# Altium integrated library Agilent LED Display Overflow.IntLib: 60 symbols (part 1 of 2)
Pins are listed as number, name and electrical type; pins without a type are passive.

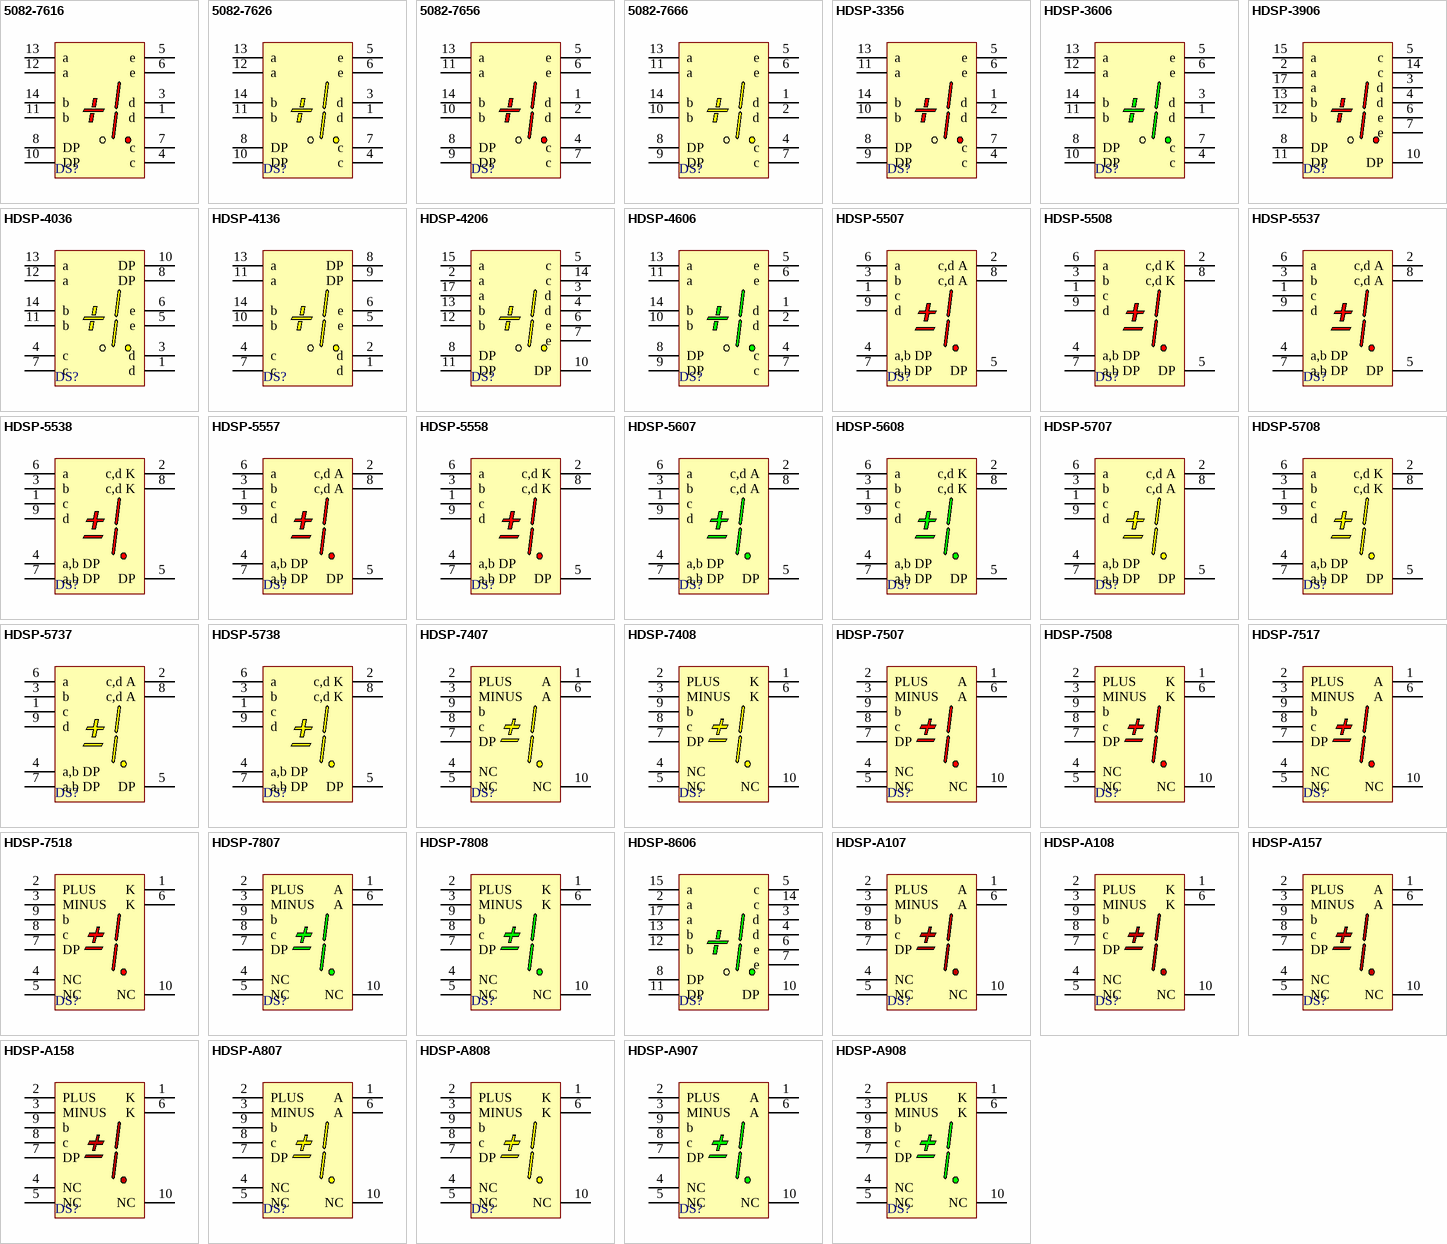
[diagram p0: symbols 5082-7616 to HDSP-A908]

## 5082-7616
designator DS?
7.62 mm HER 7-Segment Display: Universal ±1 Overflow, RH DP; LuminousIntensity: 340 ucd (Minimum).; LED_Colour: High Efficiency Red (HER); Note: No pins are present in positions 2 and 9.; Published: 26-May-2004; LatestRevisionDate: 11-Oct-2004; LatestRevisionNote: Display outline superimposed on PCB Footprint.; DatasheetDocument: 27-Aug-2001; PackageDocument: 10-Mar-2001; PackageReference: A-12; Publisher: Altium Limited; ComponentLink1Description: Manufacturer Link; ComponentLink1URL: http://www.agilent.com/; ComponentLink2Description: Datasheet; ComponentLink2URL: http://cp.literature.agilent.com/litweb/pdf/5988-3325EN.pdf
footprint A-12 (LED, Universal ±1 Overflow, 7.62 mm, RHD; 14 Leads (2 Absent); Row Space 7.62 mm; Pitch 2.54 mm)
simulation model 5082_7616 (SUBCKT)
pins: 1 d "Anode", 3 d "Cathode", 4 c "Cathode", 5 e "Cathode", 6 e "Anode", 7 c "Anode", 8 DP "Anode", 10 DP "Cathode", 11 b "Cathode", 12 a "Cathode", 13 a "Anode", 14 b "Anode"

## 5082-7626
designator DS?
7.62 mm Yellow 7-Segment Display: Universal ±1 Overflow, RH DP; LuminousIntensity: 205 ucd (Minimum).; Note: No pins are present in positions 2 and 9.; Published: 26-May-2004; LatestRevisionDate: 11-Oct-2004; LatestRevisionNote: Display outline superimposed on PCB Footprint.; DatasheetDocument: 27-Aug-2001; PackageDocument: 10-Mar-2001; PackageReference: A-12; Publisher: Altium Limited; LED_Colour: Yellow; ComponentLink1Description: Manufacturer Link; ComponentLink1URL: http://www.agilent.com/; ComponentLink2Description: Datasheet; ComponentLink2URL: http://cp.literature.agilent.com/litweb/pdf/5988-3325EN.pdf
footprint A-12 (LED, Universal ±1 Overflow, 7.62 mm, RHD; 14 Leads (2 Absent); Row Space 7.62 mm; Pitch 2.54 mm)
simulation model 5082_7626 (SUBCKT)
pins: 1 d "Anode", 3 d "Cathode", 4 c "Cathode", 5 e "Cathode", 6 e "Anode", 7 c "Anode", 8 DP "Anode", 10 DP "Cathode", 11 b "Cathode", 12 a "Cathode", 13 a "Anode", 14 b "Anode"

## 5082-7656
designator DS?
10.92 mm HER 7-Segment Display: Universal ±1 Overflow, RH DP; LuminousIntensity: 340 ucd (Minimum).; LED_Colour: High Efficiency Red (HER); Note: No pins are present in positions 3 and 12.; Published: 26-May-2004; LatestRevisionDate: 11-Oct-2004; LatestRevisionNote: Display outline superimposed on PCB Footprint.; DatasheetDocument: 27-Aug-2001; PackageDocument: 11-Mar-2003; PackageReference: E-12; Publisher: Altium Limited; ComponentLink1Description: Manufacturer Link; ComponentLink1URL: http://www.agilent.com/; ComponentLink2Description: Datasheet; ComponentLink2URL: http://cp.literature.agilent.com/litweb/pdf/5988-3325EN.pdf
footprint E-12 (LED, Universal ±1 Overflow, 10.92 mm, RHD; 14 Leads (2 Absent); Row Space 7.62 mm; Pitch 2.54 mm)
simulation model 5082_7656 (SUBCKT)
pins: 1 d "Cathode", 2 d "Anode", 4 c "Cathode", 5 e "Cathode", 6 e "Anode", 7 c "Anode", 8 DP "Anode", 9 DP "Cathode", 10 b "Cathode", 11 a "Cathode", 13 a "Anode", 14 b "Anode"

## 5082-7666
designator DS?
10.92 mm Yellow 7-Segment Display: Universal ±1 Overflow, RH DP; LuminousIntensity: 290 ucd (Minimum).; Note: No pins are present in positions 3 and 12.; Published: 26-May-2004; LatestRevisionDate: 11-Oct-2004; LatestRevisionNote: Display outline superimposed on PCB Footprint.; DatasheetDocument: 27-Aug-2001; PackageDocument: 11-Mar-2003; PackageReference: E-12; Publisher: Altium Limited; LED_Colour: Yellow; ComponentLink1Description: Manufacturer Link; ComponentLink1URL: http://www.agilent.com/; ComponentLink2Description: Datasheet; ComponentLink2URL: http://cp.literature.agilent.com/litweb/pdf/5988-3325EN.pdf
footprint E-12 (LED, Universal ±1 Overflow, 10.92 mm, RHD; 14 Leads (2 Absent); Row Space 7.62 mm; Pitch 2.54 mm)
simulation model 5082_7666 (SUBCKT)
pins: 1 d "Cathode", 2 d "Anode", 4 c "Cathode", 5 e "Cathode", 6 e "Anode", 7 c "Anode", 8 DP "Anode", 9 DP "Cathode", 10 b "Cathode", 11 a "Cathode", 13 a "Anode", 14 b "Anode"

## HDSP-3356
designator DS?
10.92 mm Low Current HER 7-Segment Display: Universal ±1 Overflow; LuminousIntensity: 200 ucd (Minimum).; LED_Colour: High Efficiency Red (HER); Note: No pins are present in positions 3 and 12.; Published: 26-May-2004; LatestRevisionDate: 11-Oct-2004; LatestRevisionNote: Display outline superimposed on PCB Footprint.; DatasheetDocument: 11-Mar-2003; PackageDocument: 11-Mar-2003; PackageReference: E-12; Publisher: Altium Limited; ComponentLink1Description: Manufacturer Link; ComponentLink1URL: http://www.agilent.com/; ComponentLink2Description: Datasheet; ComponentLink2URL: http://cp.literature.agilent.com/litweb/pdf/5989-2824EN.pdf
footprint E-12 (LED, Universal ±1 Overflow, 10.92 mm, RHD; 14 Leads (2 Absent); Row Space 7.62 mm; Pitch 2.54 mm)
simulation model HDSP_3356 (SUBCKT)
pins: 1 d "Cathode", 2 d "Anode", 4 c "Cathode", 5 e "Cathode", 6 e "Anode", 7 c "Anode", 8 DP "Anode", 9 DP "Cathode", 10 b "Cathode", 11 a "Cathode", 13 a "Anode", 14 b "Anode"

## HDSP-3606
designator DS?
7.62 mm Green 7-Segment Display: Universal ±1 Overflow, RH DP; LuminousIntensity: 860 ucd (Minimum).; Note: No pins are present in positions 2 and 9.; Published: 26-May-2004; LatestRevisionDate: 11-Oct-2004; LatestRevisionNote: Display outline superimposed on PCB Footprint.; DatasheetDocument: 27-Aug-2001; PackageDocument: 10-Mar-2001; PackageReference: A-12; Publisher: Altium Limited; LED_Colour: Green; ComponentLink1Description: Manufacturer Link; ComponentLink1URL: http://www.agilent.com/; ComponentLink2Description: Datasheet; ComponentLink2URL: http://cp.literature.agilent.com/litweb/pdf/5988-3325EN.pdf
footprint A-12 (LED, Universal ±1 Overflow, 7.62 mm, RHD; 14 Leads (2 Absent); Row Space 7.62 mm; Pitch 2.54 mm)
simulation model HDSP_3606 (SUBCKT)
pins: 1 d "Anode", 3 d "Cathode", 4 c "Cathode", 5 e "Cathode", 6 e "Anode", 7 c "Anode", 8 DP "Anode", 10 DP "Cathode", 11 b "Cathode", 12 a "Cathode", 13 a "Anode", 14 b "Anode"

## HDSP-3906
designator DS?
20.32 mm Gray Package HER 7-Segment Display: Universal ±1 Overflow; LuminousIntensity: 3350 ucd (Minimum).; LED_Colour: High Efficiency Red (HER); Note: No pins are present in positions 1, 9, 16 and 18.; Published: 26-May-2004; LatestRevisionDate: 11-Oct-2004; LatestRevisionNote: Display outline superimposed on PCB Footprint.; DatasheetDocument: 26-Jul-2001; PackageDocument: 26-Jul-2001; PackageReference: N-14; Publisher: Altium Limited; ComponentLink1Description: Manufacturer Link; ComponentLink1URL: http://www.agilent.com/; ComponentLink2Description: Datasheet; ComponentLink2URL: http://cp.literature.agilent.com/litweb/pdf/5988-1737EN.pdf
footprint N-14 (LED, 7-Segment Display, 20.32 mm, RHD; 18 Leads (4 Absent); Row Space 15.24 mm; Pitch 2.54 mm)
simulation model HDSP_3906 (SUBCKT)
pins: 2 a "Cathode", 3 d "Anode", 4 d "Cathode", 5 c "Cathode", 6 e "Cathode", 7 e "Anode", 8 DP "Cathode", 10 DP "Anode", 11 DP "Cathode", 12 b "Cathode", 13 b "Anode", 14 c "Anode", 15 a "Anode", 17 a "Cathode"

## HDSP-4036
designator DS?
7.62 mm Gray Package Yellow 7-Segment Display for High Light Ambient Conditions: Universal ±1 Overflow, RH DP; LuminousIntensity: 2200 ucd (Typical).; Note: No pins are present in positions 2 and 9.; Published: 26-May-2004; LatestRevisionDate: 11-Oct-2004; LatestRevisionNote: Display outline superimposed on PCB Footprint.; DatasheetDocument: 10-Mar-2001; PackageDocument: 10-Mar-2001; PackageReference: A-12; Publisher: Altium Limited; LED_Colour: Yellow; ComponentLink1Description: Manufacturer Link; ComponentLink1URL: http://www.agilent.com/; ComponentLink2Description: Datasheet; ComponentLink2URL: http://cp.literature.agilent.com/litweb/pdf/5988-1734EN.pdf
footprint A-12 (LED, Universal ±1 Overflow, 7.62 mm, RHD; 14 Leads (2 Absent); Row Space 7.62 mm; Pitch 2.54 mm)
simulation model HDSP_4036 (SUBCKT)
pins: 1 d "Anode", 3 d "Cathode", 4 c "Cathode", 5 e "Cathode", 6 e "Anode", 7 c "Anode", 8 DP "Anode", 10 DP "Cathode", 11 b "Cathode", 12 a "Cathode", 13 a "Anode", 14 b "Anode"

## HDSP-4136
designator DS?
10.9 mm Gray Package Yellow 7-Segment Display for High Light Ambient Conditions: Universal ±1 Overflow, RH DP; LuminousIntensity: 2500 ucd (Typical).; Note: No pins are present in positions 3 and 12.; Published: 26-May-2004; LatestRevisionDate: 11-Oct-2004; LatestRevisionNote: Display outline superimposed on PCB Footprint.; DatasheetDocument: 10-Mar-2001; PackageDocument: 11-Mar-2003; PackageReference: E-12; Publisher: Altium Limited; LED_Colour: Yellow; ComponentLink1Description: Manufacturer Link; ComponentLink1URL: http://www.agilent.com/; ComponentLink2Description: Datasheet; ComponentLink2URL: http://cp.literature.agilent.com/litweb/pdf/5988-1734EN.pdf
footprint E-12 (LED, Universal ±1 Overflow, 10.92 mm, RHD; 14 Leads (2 Absent); Row Space 7.62 mm; Pitch 2.54 mm)
simulation model HDSP_4136 (SUBCKT)
pins: 1 d "Cathode", 2 d "Anode", 4 c "Cathode", 5 e "Cathode", 6 e "Anode", 7 c "Anode", 8 DP "Anode", 9 DP "Cathode", 10 b "Cathode", 11 a "Cathode", 13 a "Anode", 14 b "Anode"

## HDSP-4206
designator DS?
20.32 mm Gray Package Yellow 7-Segment Display: Universal ±1 Overflow; LuminousIntensity: 2200 ucd (Minimum).; Note: No pins are present in positions 1, 9, 16 and 18.; Published: 26-May-2004; LatestRevisionDate: 11-Oct-2004; LatestRevisionNote: Display outline superimposed on PCB Footprint.; DatasheetDocument: 26-Jul-2001; PackageDocument: 26-Jul-2001; PackageReference: N-14; Publisher: Altium Limited; LED_Colour: Yellow; ComponentLink1Description: Manufacturer Link; ComponentLink1URL: http://www.agilent.com/; ComponentLink2Description: Datasheet; ComponentLink2URL: http://cp.literature.agilent.com/litweb/pdf/5988-1737EN.pdf
footprint N-14 (LED, 7-Segment Display, 20.32 mm, RHD; 18 Leads (4 Absent); Row Space 15.24 mm; Pitch 2.54 mm)
simulation model HDSP_4206 (SUBCKT)
pins: 2 a "Cathode", 3 d "Anode", 4 d "Cathode", 5 c "Cathode", 6 e "Cathode", 7 e "Anode", 8 DP "Cathode", 10 DP "Anode", 11 DP "Cathode", 12 b "Cathode", 13 b "Anode", 14 c "Anode", 15 a "Anode", 17 a "Cathode"

## HDSP-4606
designator DS?
10.92 mm Green 7-Segment Display: Universal ±1 Overflow, RH DP; LuminousIntensity: 1030 ucd (Minimum).; Note: No pins are present in positions 3 and 12.; Published: 26-May-2004; LatestRevisionDate: 11-Oct-2004; LatestRevisionNote: Display outline superimposed on PCB Footprint.; DatasheetDocument: 27-Aug-2001; PackageDocument: 11-Mar-2003; PackageReference: E-12; Publisher: Altium Limited; LED_Colour: Green; ComponentLink1Description: Manufacturer Link; ComponentLink1URL: http://www.agilent.com/; ComponentLink2Description: Datasheet; ComponentLink2URL: http://cp.literature.agilent.com/litweb/pdf/5988-3325EN.pdf
footprint E-12 (LED, Universal ±1 Overflow, 10.92 mm, RHD; 14 Leads (2 Absent); Row Space 7.62 mm; Pitch 2.54 mm)
simulation model HDSP_4606 (SUBCKT)
pins: 1 d "Cathode", 2 d "Anode", 4 c "Cathode", 5 e "Cathode", 6 e "Anode", 7 c "Anode", 8 DP "Anode", 9 DP "Cathode", 10 b "Cathode", 11 a "Cathode", 13 a "Anode", 14 b "Anode"

## HDSP-5507
designator DS?
14.22 mm Gray Surface HER 7-Segment Display: CA, ±1 Overflow; LuminousIntensity: 900 ucd (Minimum).; LED_Colour: High Efficiency Red (HER); Note: No pin is present in position 10.; Published: 26-May-2004; LatestRevisionDate: 11-Oct-2004; LatestRevisionNote: Display outline superimposed on PCB Footprint.; DatasheetDocument: 17-Jan-2002; PackageDocument: 24-Sep-2002; PackageReference: H-9; Publisher: Altium Limited; ComponentLink1Description: Manufacturer Link; ComponentLink1URL: http://www.agilent.com/; ComponentLink2Description: Datasheet; ComponentLink2URL: http://cp.literature.agilent.com/litweb/pdf/5988-4273EN.pdf
footprint H-9 (LED, Universal ±1 Overflow, 14.22 mm, RHD; 10 Leads (1 Absent); Row Space 15.24 mm; Pitch 2.54 mm)
simulation model HDSP_5507 (SUBCKT)
pins: 1 c "Cathode", 2 c,d A "Anode", 3 b "Cathode", 4 a,b DP "Anode", 5 DP "Cathode", 6 a "Cathode", 7 a,b DP "Anode", 8 c,d A "Anode", 9 d "Cathode"

## HDSP-5508
designator DS?
14.22 mm Gray Surface HER 7-Segment Display: CC, ±1 Overflow; LuminousIntensity: 900 ucd (Minimum).; LED_Colour: High Efficiency Red (HER); Note: No pin is present in position 10.; Published: 26-May-2004; LatestRevisionDate: 11-Oct-2004; LatestRevisionNote: Display outline superimposed on PCB Footprint.; DatasheetDocument: 17-Jan-2002; PackageDocument: 24-Sep-2002; PackageReference: H-9; Publisher: Altium Limited; ComponentLink1Description: Manufacturer Link; ComponentLink1URL: http://www.agilent.com/; ComponentLink2Description: Datasheet; ComponentLink2URL: http://cp.literature.agilent.com/litweb/pdf/5988-4273EN.pdf
footprint H-9 (LED, Universal ±1 Overflow, 14.22 mm, RHD; 10 Leads (1 Absent); Row Space 15.24 mm; Pitch 2.54 mm)
simulation model HDSP_5508 (SUBCKT)
pins: 1 c "Anode", 2 c,d K "Cathode", 3 b "Anode", 4 a,b DP "Cathode", 5 DP "Anode", 6 a "Anode", 7 a,b DP "Cathode", 8 c,d K "Cathode", 9 d "Anode"

## HDSP-5537
designator DS?
14.22 mm Gray Package High Efficiency Red 7-Segment Display for High Light Ambient Conditions: CA, ±1 Overflow; LuminousIntensity: 4800 ucd (Typical).; LED_Colour: High Efficiency Red (HER); Note: No pin is present in position 10.; Published: 26-May-2004; LatestRevisionDate: 11-Oct-2004; LatestRevisionNote: Display outline superimposed on PCB Footprint.; DatasheetDocument: 10-Mar-2001; PackageDocument: 24-Sep-2002; PackageReference: H-9; Publisher: Altium Limited; ComponentLink1Description: Manufacturer Link; ComponentLink1URL: http://www.agilent.com/; ComponentLink2Description: Datasheet; ComponentLink2URL: http://cp.literature.agilent.com/litweb/pdf/5988-1734EN.pdf
footprint H-9 (LED, Universal ±1 Overflow, 14.22 mm, RHD; 10 Leads (1 Absent); Row Space 15.24 mm; Pitch 2.54 mm)
simulation model HDSP_5537 (SUBCKT)
pins: 1 c "Cathode c", 2 c,d A "Anode c,d", 3 b "Cathode b", 4 a,b DP "Anode a,b,DP", 5 DP "Cathode DP", 6 a "Cathode a", 7 a,b DP "Anode a,b,DP", 8 c,d A "Anode c,d", 9 d "Cathode d"

## HDSP-5538
designator DS?
14.22 mm Gray Package High Efficiency Red 7-Segment Display for High Light Ambient Conditions: CC, ±1 Overflow; LuminousIntensity: 4800 ucd (Typical).; LED_Colour: High Efficiency Red (HER); Note: No pin is present in position 10.; Published: 26-May-2004; LatestRevisionDate: 11-Oct-2004; LatestRevisionNote: Display outline superimposed on PCB Footprint.; DatasheetDocument: 10-Mar-2001; PackageDocument: 24-Sep-2002; PackageReference: H-9; Publisher: Altium Limited; ComponentLink1Description: Manufacturer Link; ComponentLink1URL: http://www.agilent.com/; ComponentLink2Description: Datasheet; ComponentLink2URL: http://cp.literature.agilent.com/litweb/pdf/5988-1734EN.pdf
footprint H-9 (LED, Universal ±1 Overflow, 14.22 mm, RHD; 10 Leads (1 Absent); Row Space 15.24 mm; Pitch 2.54 mm)
simulation model HDSP_5538 (SUBCKT)
pins: 1 c "Anode c", 2 c,d K "Cathode c,d", 3 b "Anode b", 4 a,b DP "Cathode a,b,DP", 5 DP "Anode DP", 6 a "Anode a", 7 a,b DP "Cathode a,b,DP", 8 c,d K "Cathode c,d", 9 d "Anode d"

## HDSP-5557
designator DS?
14.22 mm Low Current HER 7-Segment Display: CA, ±1 Overflow; LuminousIntensity: 200 ucd (Minimum).; LED_Colour: High Efficiency Red (HER); Note: No pin is present in position 10.; Published: 26-May-2004; LatestRevisionDate: 11-Oct-2004; LatestRevisionNote: Display outline superimposed on PCB Footprint.; DatasheetDocument: 11-Mar-2003; PackageDocument: 24-Sep-2002; PackageReference: H-9; Publisher: Altium Limited; ComponentLink1Description: Manufacturer Link; ComponentLink1URL: http://www.agilent.com/; ComponentLink2Description: Datasheet; ComponentLink2URL: http://cp.literature.agilent.com/litweb/pdf/5989-2824EN.pdf
footprint H-9 (LED, Universal ±1 Overflow, 14.22 mm, RHD; 10 Leads (1 Absent); Row Space 15.24 mm; Pitch 2.54 mm)
simulation model HDSP_5557 (SUBCKT)
pins: 1 c "Cathode", 2 c,d A "Anode", 3 b "Cathode", 4 a,b DP "Anode", 5 DP "Cathode", 6 a "Cathode", 7 a,b DP "Anode", 8 c,d A "Anode", 9 d "Cathode"

## HDSP-5558
designator DS?
14.22 mm Low Current HER 7-Segment Display: CC, ±1 Overflow; LuminousIntensity: 200 ucd (Minimum).; LED_Colour: High Efficiency Red (HER); Note: No pin is present in position 10.; Published: 26-May-2004; LatestRevisionDate: 11-Oct-2004; LatestRevisionNote: Display outline superimposed on PCB Footprint.; DatasheetDocument: 11-Mar-2003; PackageDocument: 24-Sep-2002; PackageReference: H-9; Publisher: Altium Limited; ComponentLink1Description: Manufacturer Link; ComponentLink1URL: http://www.agilent.com/; ComponentLink2Description: Datasheet; ComponentLink2URL: http://cp.literature.agilent.com/litweb/pdf/5989-2824EN.pdf
footprint H-9 (LED, Universal ±1 Overflow, 14.22 mm, RHD; 10 Leads (1 Absent); Row Space 15.24 mm; Pitch 2.54 mm)
simulation model HDSP_5558 (SUBCKT)
pins: 1 c "Anode", 2 c,d K "Cathode", 3 b "Anode", 4 a,b DP "Cathode", 5 DP "Anode", 6 a "Anode", 7 a,b DP "Cathode", 8 c,d K "Cathode", 9 d "Anode"

## HDSP-5607
designator DS?
14.22 mm Gray Surface Green 7-Segment Display: CA, ±1 Overflow; LuminousIntensity: 900 ucd (Minimum).; Note: No pin is present in position 10.; Published: 26-May-2004; LatestRevisionDate: 11-Oct-2004; LatestRevisionNote: Display outline superimposed on PCB Footprint.; DatasheetDocument: 17-Jan-2002; PackageDocument: 24-Sep-2002; PackageReference: H-9; Publisher: Altium Limited; LED_Colour: Green; ComponentLink1Description: Manufacturer Link; ComponentLink1URL: http://www.agilent.com/; ComponentLink2Description: Datasheet; ComponentLink2URL: http://cp.literature.agilent.com/litweb/pdf/5988-4273EN.pdf
footprint H-9 (LED, Universal ±1 Overflow, 14.22 mm, RHD; 10 Leads (1 Absent); Row Space 15.24 mm; Pitch 2.54 mm)
simulation model HDSP_5607 (SUBCKT)
pins: 1 c "Cathode", 2 c,d A "Anode", 3 b "Cathode", 4 a,b DP "Anode", 5 DP "Cathode", 6 a "Cathode", 7 a,b DP "Anode", 8 c,d A "Anode", 9 d "Cathode"

## HDSP-5608
designator DS?
14.22 mm Gray Surface Green 7-Segment Display: CC, ±1 Overflow; LuminousIntensity: 900 ucd (Minimum).; Note: No pin is present in position 10.; Published: 26-May-2004; LatestRevisionDate: 11-Oct-2004; LatestRevisionNote: Display outline superimposed on PCB Footprint.; DatasheetDocument: 17-Jan-2002; PackageDocument: 24-Sep-2002; PackageReference: H-9; Publisher: Altium Limited; LED_Colour: Green; ComponentLink1Description: Manufacturer Link; ComponentLink1URL: http://www.agilent.com/; ComponentLink2Description: Datasheet; ComponentLink2URL: http://cp.literature.agilent.com/litweb/pdf/5988-4273EN.pdf
footprint H-9 (LED, Universal ±1 Overflow, 14.22 mm, RHD; 10 Leads (1 Absent); Row Space 15.24 mm; Pitch 2.54 mm)
simulation model HDSP_5608 (SUBCKT)
pins: 1 c "Anode", 2 c,d K "Cathode", 3 b "Anode", 4 a,b DP "Cathode", 5 DP "Anode", 6 a "Anode", 7 a,b DP "Cathode", 8 c,d K "Cathode", 9 d "Anode"

## HDSP-5707
designator DS?
14.22 mm Gray Surface Yellow 7-Segment Display: CA, ±1 Overflow; LuminousIntensity: 600 ucd (Minimum).; Note: No pin is present in position 10.; Published: 26-May-2004; LatestRevisionDate: 11-Oct-2004; LatestRevisionNote: Display outline superimposed on PCB Footprint.; DatasheetDocument: 17-Jan-2002; PackageDocument: 24-Sep-2002; PackageReference: H-9; Publisher: Altium Limited; LED_Colour: Yellow; ComponentLink1Description: Manufacturer Link; ComponentLink1URL: http://www.agilent.com/; ComponentLink2Description: Datasheet; ComponentLink2URL: http://cp.literature.agilent.com/litweb/pdf/5988-4273EN.pdf
footprint H-9 (LED, Universal ±1 Overflow, 14.22 mm, RHD; 10 Leads (1 Absent); Row Space 15.24 mm; Pitch 2.54 mm)
simulation model HDSP_5707 (SUBCKT)
pins: 1 c "Cathode", 2 c,d A "Anode", 3 b "Cathode", 4 a,b DP "Anode", 5 DP "Cathode", 6 a "Cathode", 7 a,b DP "Anode", 8 c,d A "Anode", 9 d "Cathode"

## HDSP-5708
designator DS?
14.22 mm Gray Surface Yellow 7-Segment Display: CC, ±1 Overflow; LuminousIntensity: 600 ucd (Minimum).; Note: No pin is present in position 10.; Published: 26-May-2004; LatestRevisionDate: 11-Oct-2004; LatestRevisionNote: Display outline superimposed on PCB Footprint.; DatasheetDocument: 17-Jan-2002; PackageDocument: 24-Sep-2002; PackageReference: H-9; Publisher: Altium Limited; LED_Colour: Yellow; ComponentLink1Description: Manufacturer Link; ComponentLink1URL: http://www.agilent.com/; ComponentLink2Description: Datasheet; ComponentLink2URL: http://cp.literature.agilent.com/litweb/pdf/5988-4273EN.pdf
footprint H-9 (LED, Universal ±1 Overflow, 14.22 mm, RHD; 10 Leads (1 Absent); Row Space 15.24 mm; Pitch 2.54 mm)
simulation model HDSP_5708 (SUBCKT)
pins: 1 c "Anode", 2 c,d K "Cathode", 3 b "Anode", 4 a,b DP "Cathode", 5 DP "Anode", 6 a "Anode", 7 a,b DP "Cathode", 8 c,d K "Cathode", 9 d "Anode"

## HDSP-5737
designator DS?
14.22 mm Gray Package Yellow 7-Segment Display for High Light Ambient Conditions: CA, ±1 Overflow; LuminousIntensity: 3400 ucd (Typical).; Note: No pin is present in position 10.; Published: 26-May-2004; LatestRevisionDate: 11-Oct-2004; LatestRevisionNote: Display outline superimposed on PCB Footprint.; DatasheetDocument: 10-Mar-2001; PackageDocument: 24-Sep-2002; PackageReference: H-9; Publisher: Altium Limited; LED_Colour: Yellow; ComponentLink1Description: Manufacturer Link; ComponentLink1URL: http://www.agilent.com/; ComponentLink2Description: Datasheet; ComponentLink2URL: http://cp.literature.agilent.com/litweb/pdf/5988-1734EN.pdf
footprint H-9 (LED, Universal ±1 Overflow, 14.22 mm, RHD; 10 Leads (1 Absent); Row Space 15.24 mm; Pitch 2.54 mm)
simulation model HDSP_5737 (SUBCKT)
pins: 1 c "Cathode", 2 c,d A "Anode", 3 b "Cathode", 4 a,b DP "Anode", 5 DP "Cathode", 6 a "Cathode", 7 a,b DP "Anode", 8 c,d A "Anode", 9 d "Cathode"

## HDSP-5738
designator DS?
14.22 mm Gray Package Yellow 7-Segment Display for High Light Ambient Conditions: CC, ±1 Overflow; LuminousIntensity: 3400 ucd (Typical).; Note: No pin is present in position 10.; Published: 26-May-2004; LatestRevisionDate: 11-Oct-2004; LatestRevisionNote: Display outline superimposed on PCB Footprint.; DatasheetDocument: 10-Mar-2001; PackageDocument: 24-Sep-2002; PackageReference: H-9; Publisher: Altium Limited; LED_Colour: Yellow; ComponentLink1Description: Manufacturer Link; ComponentLink1URL: http://www.agilent.com/; ComponentLink2Description: Datasheet; ComponentLink2URL: http://cp.literature.agilent.com/litweb/pdf/5988-1734EN.pdf
footprint H-9 (LED, Universal ±1 Overflow, 14.22 mm, RHD; 10 Leads (1 Absent); Row Space 15.24 mm; Pitch 2.54 mm)
simulation model HDSP_5738 (SUBCKT)
pins: 1 c "Anode", 2 c,d K "Cathode", 3 b "Anode", 4 a,b DP "Cathode", 5 DP "Anode", 6 a "Anode", 7 a,b DP "Cathode", 8 c,d K "Cathode", 9 d "Anode"

## HDSP-7407
designator DS?
7.6 mm Micro Bright Yellow 7-Segment Display: CA, ± 1 Overflow; LuminousIntensity: 225 ucd (Minimum).; Note: Pins 1 and 6 are redundant Anodes.; Published: 26-May-2004; LatestRevisionDate: 11-Oct-2004; LatestRevisionNote: Display outline superimposed on PCB Footprint.; DatasheetDocument: 11-Feb-2002; PackageDocument: 19-Feb-2002; PackageReference: A-OVF; Publisher: Altium Limited; LED_Colour: Yellow; ComponentLink1Description: Manufacturer Link; ComponentLink1URL: http://www.agilent.com/; ComponentLink2Description: Datasheet; ComponentLink2URL: http://cp.literature.agilent.com/litweb/pdf/5988-4434EN.pdf
footprint A-OVF (LED, Universal ±1 Overflow, 7.62 mm, RHD; 10 Leads; Row Space 5.08 mm; Pitch 2.54 mm)
simulation model HDSP_7407 (SUBCKT)
pins: 1 A "Anode", 2 PLUS "Cathode", 3 MINUS "Cathode", 4 NC "No Connect", 5 NC "No Connect", 6 A "Anode", 7 DP "Cathode", 8 c "Cathode", 9 b "Cathode", 10 NC "No Connect"

## HDSP-7408
designator DS?
7.6 mm Micro Bright Yellow 7-Segment Display: CC, ± 1 Overflow; LuminousIntensity: 225 ucd (Minimum).; Note: Pins 1 and 6 are redundant Cathodes.; Published: 26-May-2004; LatestRevisionDate: 11-Oct-2004; LatestRevisionNote: Display outline superimposed on PCB Footprint.; DatasheetDocument: 11-Feb-2002; PackageDocument: 19-Feb-2002; PackageReference: A-OVF; Publisher: Altium Limited; LED_Colour: Yellow; ComponentLink1Description: Manufacturer Link; ComponentLink1URL: http://www.agilent.com/; ComponentLink2Description: Datasheet; ComponentLink2URL: http://cp.literature.agilent.com/litweb/pdf/5988-4434EN.pdf
footprint A-OVF (LED, Universal ±1 Overflow, 7.62 mm, RHD; 10 Leads; Row Space 5.08 mm; Pitch 2.54 mm)
simulation model HDSP_7408 (SUBCKT)
pins: 1 K "Cathode", 2 PLUS "Anode", 3 MINUS "Anode", 4 NC "No Connect", 5 NC "No Connect", 6 K "Cathode", 7 DP "Anode", 8 c "Anode", 9 b "Anode", 10 NC "No Connect"

## HDSP-7507
designator DS?
7.6 mm Micro Bright HER 7-Segment Display: CA, ± 1 Overflow; LuminousIntensity: 360 ucd (Minimum).; LED_Colour: High Efficiency Red (HER); Note: Pins 1 and 6 are redundant Anodes.; Published: 26-May-2004; LatestRevisionDate: 11-Oct-2004; LatestRevisionNote: Display outline superimposed on PCB Footprint.; DatasheetDocument: 11-Feb-2002; PackageDocument: 19-Feb-2002; PackageReference: A-OVF; Publisher: Altium Limited; ComponentLink1Description: Manufacturer Link; ComponentLink1URL: http://www.agilent.com/; ComponentLink2Description: Datasheet; ComponentLink2URL: http://cp.literature.agilent.com/litweb/pdf/5988-4434EN.pdf
footprint A-OVF (LED, Universal ±1 Overflow, 7.62 mm, RHD; 10 Leads; Row Space 5.08 mm; Pitch 2.54 mm)
simulation model HDSP_7507 (SUBCKT)
pins: 1 A "Anode", 2 PLUS "Cathode", 3 MINUS "Cathode", 4 NC "No Connect", 5 NC "No Connect", 6 A "Anode", 7 DP "Cathode", 8 c "Cathode", 9 b "Cathode", 10 NC "No Connect"

## HDSP-7508
designator DS?
7.6 mm Micro Bright HER 7-Segment Display: CC, ± 1 Overflow; LuminousIntensity: 360 ucd (Minimum).; LED_Colour: High Efficiency Red (HER); Note: Pins 1 and 6 are redundant Cathodes.; Published: 26-May-2004; LatestRevisionDate: 11-Oct-2004; LatestRevisionNote: Display outline superimposed on PCB Footprint.; DatasheetDocument: 11-Feb-2002; PackageDocument: 19-Feb-2002; PackageReference: A-OVF; Publisher: Altium Limited; ComponentLink1Description: Manufacturer Link; ComponentLink1URL: http://www.agilent.com/; ComponentLink2Description: Datasheet; ComponentLink2URL: http://cp.literature.agilent.com/litweb/pdf/5988-4434EN.pdf
footprint A-OVF (LED, Universal ±1 Overflow, 7.62 mm, RHD; 10 Leads; Row Space 5.08 mm; Pitch 2.54 mm)
simulation model HDSP_7508 (SUBCKT)
pins: 1 K "Cathode", 2 PLUS "Anode", 3 MINUS "Anode", 4 NC "No Connect", 5 NC "No Connect", 6 K "Cathode", 7 DP "Anode", 8 c "Anode", 9 b "Anode", 10 NC "No Connect"

## HDSP-7517
designator DS?
7.62 mm Low Current HER 7-Segment Display: CA, ±1 Overflow; LuminousIntensity: 160 ucd (Minimum).; LED_Colour: High Efficiency Red (HER); Note: Pins 1 and 6 are redundant Anodes.; Published: 26-May-2004; LatestRevisionDate: 11-Oct-2004; LatestRevisionNote: Display outline superimposed on PCB Footprint.; DatasheetDocument: 11-Mar-2003; PackageDocument: 19-Feb-2002; PackageReference: A-OVF; Publisher: Altium Limited; ComponentLink1Description: Manufacturer Link; ComponentLink1URL: http://www.agilent.com/; ComponentLink2Description: Datasheet; ComponentLink2URL: http://cp.literature.agilent.com/litweb/pdf/5989-2824EN.pdf
footprint A-OVF (LED, Universal ±1 Overflow, 7.62 mm, RHD; 10 Leads; Row Space 5.08 mm; Pitch 2.54 mm)
simulation model HDSP_7517 (SUBCKT)
pins: 1 A "Anode", 2 PLUS "Cathode", 3 MINUS "Cathode", 4 NC "No Connect", 5 NC "No Connect", 6 A "Anode", 7 DP "Cathode", 8 c "Cathode", 9 b "Cathode", 10 NC "No Connect"

## HDSP-7518
designator DS?
7.62 mm Low Current HER 7-Segment Display: CC, ±1 Overflow; LuminousIntensity: 160 ucd (Minimum).; LED_Colour: High Efficiency Red (HER); Note: Pins 1 and 6 are redundant Cathodes.; Published: 26-May-2004; LatestRevisionDate: 11-Oct-2004; LatestRevisionNote: Display outline superimposed on PCB Footprint.; DatasheetDocument: 11-Mar-2003; PackageDocument: 19-Feb-2002; PackageReference: A-OVF; Publisher: Altium Limited; ComponentLink1Description: Manufacturer Link; ComponentLink1URL: http://www.agilent.com/; ComponentLink2Description: Datasheet; ComponentLink2URL: http://cp.literature.agilent.com/litweb/pdf/5989-2824EN.pdf
footprint A-OVF (LED, Universal ±1 Overflow, 7.62 mm, RHD; 10 Leads; Row Space 5.08 mm; Pitch 2.54 mm)
simulation model HDSP_7518 (SUBCKT)
pins: 1 K "Cathode", 2 PLUS "Anode", 3 MINUS "Anode", 4 NC "No Connect", 5 NC "No Connect", 6 K "Cathode", 7 DP "Anode", 8 c "Anode", 9 b "Anode", 10 NC "No Connect"

## HDSP-7807
designator DS?
7.6 mm Micro Bright Green 7-Segment Display: CA, ± 1 Overflow; LuminousIntensity: 860 ucd (Minimum).; Note: Pins 1 and 6 are redundant Anodes.; Published: 26-May-2004; LatestRevisionDate: 11-Oct-2004; LatestRevisionNote: Display outline superimposed on PCB Footprint.; DatasheetDocument: 11-Feb-2002; PackageDocument: 19-Feb-2002; PackageReference: A-OVF; Publisher: Altium Limited; LED_Colour: Green; ComponentLink1Description: Manufacturer Link; ComponentLink1URL: http://www.agilent.com/; ComponentLink2Description: Datasheet; ComponentLink2URL: http://cp.literature.agilent.com/litweb/pdf/5988-4434EN.pdf
footprint A-OVF (LED, Universal ±1 Overflow, 7.62 mm, RHD; 10 Leads; Row Space 5.08 mm; Pitch 2.54 mm)
simulation model HDSP_7807 (SUBCKT)
pins: 1 A "Anode", 2 PLUS "Cathode", 3 MINUS "Cathode", 4 NC "No Connect", 5 NC "No Connect", 6 A "Anode", 7 DP "Cathode", 8 c "Cathode", 9 b "Cathode", 10 NC "No Connect"

## HDSP-7808
designator DS?
7.6 mm Micro Bright Green 7-Segment Display: CC, ± 1 Overflow; LuminousIntensity: 860 ucd (Minimum).; Note: Pins 1 and 6 are redundant Cathodes.; Published: 26-May-2004; LatestRevisionDate: 11-Oct-2004; LatestRevisionNote: Display outline superimposed on PCB Footprint.; DatasheetDocument: 11-Feb-2002; PackageDocument: 19-Feb-2002; PackageReference: A-OVF; Publisher: Altium Limited; LED_Colour: Green; ComponentLink1Description: Manufacturer Link; ComponentLink1URL: http://www.agilent.com/; ComponentLink2Description: Datasheet; ComponentLink2URL: http://cp.literature.agilent.com/litweb/pdf/5988-4434EN.pdf
footprint A-OVF (LED, Universal ±1 Overflow, 7.62 mm, RHD; 10 Leads; Row Space 5.08 mm; Pitch 2.54 mm)
simulation model HDSP_7808 (SUBCKT)
pins: 1 K "Cathode", 2 PLUS "Anode", 3 MINUS "Anode", 4 NC "No Connect", 5 NC "No Connect", 6 K "Cathode", 7 DP "Anode", 8 c "Anode", 9 b "Anode", 10 NC "No Connect"

## HDSP-8606
designator DS?
20.32 mm Gray Package Green 7-Segment Display: Universal ±1 Overflow; LuminousIntensity: 680 ucd (Minimum).; Note: No pins are present in positions 1, 9, 16 and 18.; Published: 26-May-2004; LatestRevisionDate: 11-Oct-2004; LatestRevisionNote: Display outline superimposed on PCB Footprint.; DatasheetDocument: 26-Jul-2001; PackageDocument: 26-Jul-2001; PackageReference: N-14; Publisher: Altium Limited; LED_Colour: Green; ComponentLink1Description: Manufacturer Link; ComponentLink1URL: http://www.agilent.com/; ComponentLink2Description: Datasheet; ComponentLink2URL: http://cp.literature.agilent.com/litweb/pdf/5988-1737EN.pdf
footprint N-14 (LED, 7-Segment Display, 20.32 mm, RHD; 18 Leads (4 Absent); Row Space 15.24 mm; Pitch 2.54 mm)
simulation model HDSP_8606 (SUBCKT)
pins: 2 a "Cathode", 3 d "Anode", 4 d "Cathode", 5 c "Cathode", 6 e "Cathode", 7 e "Anode", 8 DP "Cathode", 10 DP "Anode", 11 DP "Cathode", 12 b "Cathode", 13 b "Anode", 14 c "Anode", 15 a "Anode", 17 a "Cathode"

## HDSP-A107
designator DS?
7.62 mm Low Current AlGaAs 7-Segment Display: CA, ±1 Overflow; LuminousIntensity: 315 ucd (Minimum).; LED_Colour: AlGaAs Red; Note: Pins 1 and 6 are redundant Anodes.; Published: 26-May-2004; LatestRevisionDate: 11-Oct-2004; LatestRevisionNote: Display outline superimposed on PCB Footprint.; DatasheetDocument: 11-Mar-2003; PackageDocument: 19-Feb-2002; PackageReference: A-OVF; Publisher: Altium Limited; ComponentLink1Description: Manufacturer Link; ComponentLink1URL: http://www.agilent.com/; ComponentLink2Description: Datasheet; ComponentLink2URL: http://cp.literature.agilent.com/litweb/pdf/5989-2824EN.pdf
footprint A-OVF (LED, Universal ±1 Overflow, 7.62 mm, RHD; 10 Leads; Row Space 5.08 mm; Pitch 2.54 mm)
simulation model HDSP_A107 (SUBCKT)
pins: 1 A "Anode", 2 PLUS "Cathode", 3 MINUS "Cathode", 4 NC "No Connect", 5 NC "No Connect", 6 A "Anode", 7 DP "Cathode", 8 c "Cathode", 9 b "Cathode", 10 NC "No Connect"

## HDSP-A108
designator DS?
7.62 mm Low Current AlGaAs 7-Segment Display: CC, ±1 Overflow; LuminousIntensity: 315 ucd (Minimum).; LED_Colour: AlGaAs Red; Note: Pins 1 and 6 are redundant Cathodes.; Published: 26-May-2004; LatestRevisionDate: 11-Oct-2004; LatestRevisionNote: Display outline superimposed on PCB Footprint.; DatasheetDocument: 11-Mar-2003; PackageDocument: 19-Feb-2002; PackageReference: A-OVF; Publisher: Altium Limited; ComponentLink1Description: Manufacturer Link; ComponentLink1URL: http://www.agilent.com/; ComponentLink2Description: Datasheet; ComponentLink2URL: http://cp.literature.agilent.com/litweb/pdf/5989-2824EN.pdf
footprint A-OVF (LED, Universal ±1 Overflow, 7.62 mm, RHD; 10 Leads; Row Space 5.08 mm; Pitch 2.54 mm)
simulation model HDSP_A108 (SUBCKT)
pins: 1 K "Cathode", 2 PLUS "Anode", 3 MINUS "Anode", 4 NC "No Connect", 5 NC "No Connect", 6 K "Cathode", 7 DP "Anode", 8 c "Anode", 9 b "Anode", 10 NC "No Connect"

## HDSP-A157
designator DS?
7.6 mm Micro Bright AlGaAs 7-Segment Display: CA, ± 1 Overflow; LuminousIntensity: 690 ucd (Minimum).; LED_Colour: AlGaAs Red; Note: Pins 1 and 6 are redundant Anodes.; Published: 26-May-2004; LatestRevisionDate: 11-Oct-2004; LatestRevisionNote: Display outline superimposed on PCB Footprint.; DatasheetDocument: 11-Feb-2002; PackageDocument: 19-Feb-2002; PackageReference: A-OVF; Publisher: Altium Limited; ComponentLink1Description: Manufacturer Link; ComponentLink1URL: http://www.agilent.com/; ComponentLink2Description: Datasheet; ComponentLink2URL: http://cp.literature.agilent.com/litweb/pdf/5988-4434EN.pdf
footprint A-OVF (LED, Universal ±1 Overflow, 7.62 mm, RHD; 10 Leads; Row Space 5.08 mm; Pitch 2.54 mm)
simulation model HDSP_A157 (SUBCKT)
pins: 1 A "Anode", 2 PLUS "Cathode", 3 MINUS "Cathode", 4 NC "No Connect", 5 NC "No Connect", 6 A "Anode", 7 DP "Cathode", 8 c "Cathode", 9 b "Cathode", 10 NC "No Connect"

## HDSP-A158
designator DS?
7.6 mm Micro Bright AlGaAs 7-Segment Display: CC, ± 1 Overflow; LuminousIntensity: 690 ucd (Minimum).; LED_Colour: AlGaAs Red; Note: Pins 1 and 6 are redundant Cathodes.; Published: 26-May-2004; LatestRevisionDate: 11-Oct-2004; LatestRevisionNote: Display outline superimposed on PCB Footprint.; DatasheetDocument: 11-Feb-2002; PackageDocument: 19-Feb-2002; PackageReference: A-OVF; Publisher: Altium Limited; ComponentLink1Description: Manufacturer Link; ComponentLink1URL: http://www.agilent.com/; ComponentLink2Description: Datasheet; ComponentLink2URL: http://cp.literature.agilent.com/litweb/pdf/5988-4434EN.pdf
footprint A-OVF (LED, Universal ±1 Overflow, 7.62 mm, RHD; 10 Leads; Row Space 5.08 mm; Pitch 2.54 mm)
simulation model HDSP_A158 (SUBCKT)
pins: 1 K "Cathode", 2 PLUS "Anode", 3 MINUS "Anode", 4 NC "No Connect", 5 NC "No Connect", 6 K "Cathode", 7 DP "Anode", 8 c "Anode", 9 b "Anode", 10 NC "No Connect"

## HDSP-A807
designator DS?
7.62 mm Low Current Yellow 7-Segment Display: CA, ±1 Overflow; LuminousIntensity: 250 ucd (Minimum).; Note: Pins 1 and 6 are redundant Anodes.; Published: 26-May-2004; LatestRevisionDate: 11-Oct-2004; LatestRevisionNote: Display outline superimposed on PCB Footprint.; DatasheetDocument: 11-Mar-2003; PackageDocument: 19-Feb-2002; PackageReference: A-OVF; Publisher: Altium Limited; LED_Colour: Yellow; ComponentLink1Description: Manufacturer Link; ComponentLink1URL: http://www.agilent.com/; ComponentLink2Description: Datasheet; ComponentLink2URL: http://cp.literature.agilent.com/litweb/pdf/5989-2824EN.pdf
footprint A-OVF (LED, Universal ±1 Overflow, 7.62 mm, RHD; 10 Leads; Row Space 5.08 mm; Pitch 2.54 mm)
simulation model HDSP_A807 (SUBCKT)
pins: 1 A "Anode", 2 PLUS "Cathode", 3 MINUS "Cathode", 4 NC "No Connect", 5 NC "No Connect", 6 A "Anode", 7 DP "Cathode", 8 c "Cathode", 9 b "Cathode", 10 NC "No Connect"

## HDSP-A808
designator DS?
7.62 mm Low Current Yellow 7-Segment Display: CC, ±1 Overflow; LuminousIntensity: 250 ucd (Minimum).; Note: Pins 1 and 6 are redundant Cathodes.; Published: 26-May-2004; LatestRevisionDate: 11-Oct-2004; LatestRevisionNote: Display outline superimposed on PCB Footprint.; DatasheetDocument: 11-Mar-2003; PackageDocument: 19-Feb-2002; PackageReference: A-OVF; Publisher: Altium Limited; LED_Colour: Yellow; ComponentLink1Description: Manufacturer Link; ComponentLink1URL: http://www.agilent.com/; ComponentLink2Description: Datasheet; ComponentLink2URL: http://cp.literature.agilent.com/litweb/pdf/5989-2824EN.pdf
footprint A-OVF (LED, Universal ±1 Overflow, 7.62 mm, RHD; 10 Leads; Row Space 5.08 mm; Pitch 2.54 mm)
simulation model HDSP_A808 (SUBCKT)
pins: 1 K "Cathode", 2 PLUS "Anode", 3 MINUS "Anode", 4 NC "No Connect", 5 NC "No Connect", 6 K "Cathode", 7 DP "Anode", 8 c "Anode", 9 b "Anode", 10 NC "No Connect"

## HDSP-A907
designator DS?
7.62 mm Low Current Green 7-Segment Display: CA, ±1 Overflow; LuminousIntensity: 250 ucd (Minimum).; Note: Pins 1 and 6 are redundant Anodes.; Published: 26-May-2004; LatestRevisionDate: 11-Oct-2004; LatestRevisionNote: Display outline superimposed on PCB Footprint.; DatasheetDocument: 11-Mar-2003; PackageDocument: 19-Feb-2002; PackageReference: A-OVF; Publisher: Altium Limited; LED_Colour: Green; ComponentLink1Description: Manufacturer Link; ComponentLink1URL: http://www.agilent.com/; ComponentLink2Description: Datasheet; ComponentLink2URL: http://cp.literature.agilent.com/litweb/pdf/5989-2824EN.pdf
footprint A-OVF (LED, Universal ±1 Overflow, 7.62 mm, RHD; 10 Leads; Row Space 5.08 mm; Pitch 2.54 mm)
simulation model HDSP_A907 (SUBCKT)
pins: 1 A "Anode", 2 PLUS "Cathode", 3 MINUS "Cathode", 4 NC "No Connect", 5 NC "No Connect", 6 A "Anode", 7 DP "Cathode", 8 c "Cathode", 9 b "Cathode", 10 NC "No Connect"

## HDSP-A908
designator DS?
7.62 mm Low Current Green 7-Segment Display: CC, ±1 Overflow; LuminousIntensity: 250 ucd (Minimum).; Note: Pins 1 and 6 are redundant Cathodes.; Published: 26-May-2004; LatestRevisionDate: 11-Oct-2004; LatestRevisionNote: Display outline superimposed on PCB Footprint.; DatasheetDocument: 11-Mar-2003; PackageDocument: 19-Feb-2002; PackageReference: A-OVF; Publisher: Altium Limited; LED_Colour: Green; ComponentLink1Description: Manufacturer Link; ComponentLink1URL: http://www.agilent.com/; ComponentLink2Description: Datasheet; ComponentLink2URL: http://cp.literature.agilent.com/litweb/pdf/5989-2824EN.pdf
footprint A-OVF (LED, Universal ±1 Overflow, 7.62 mm, RHD; 10 Leads; Row Space 5.08 mm; Pitch 2.54 mm)
simulation model HDSP_A908 (SUBCKT)
pins: 1 K "Cathode", 2 PLUS "Anode", 3 MINUS "Anode", 4 NC "No Connect", 5 NC "No Connect", 6 K "Cathode", 7 DP "Anode", 8 c "Anode", 9 b "Anode", 10 NC "No Connect"

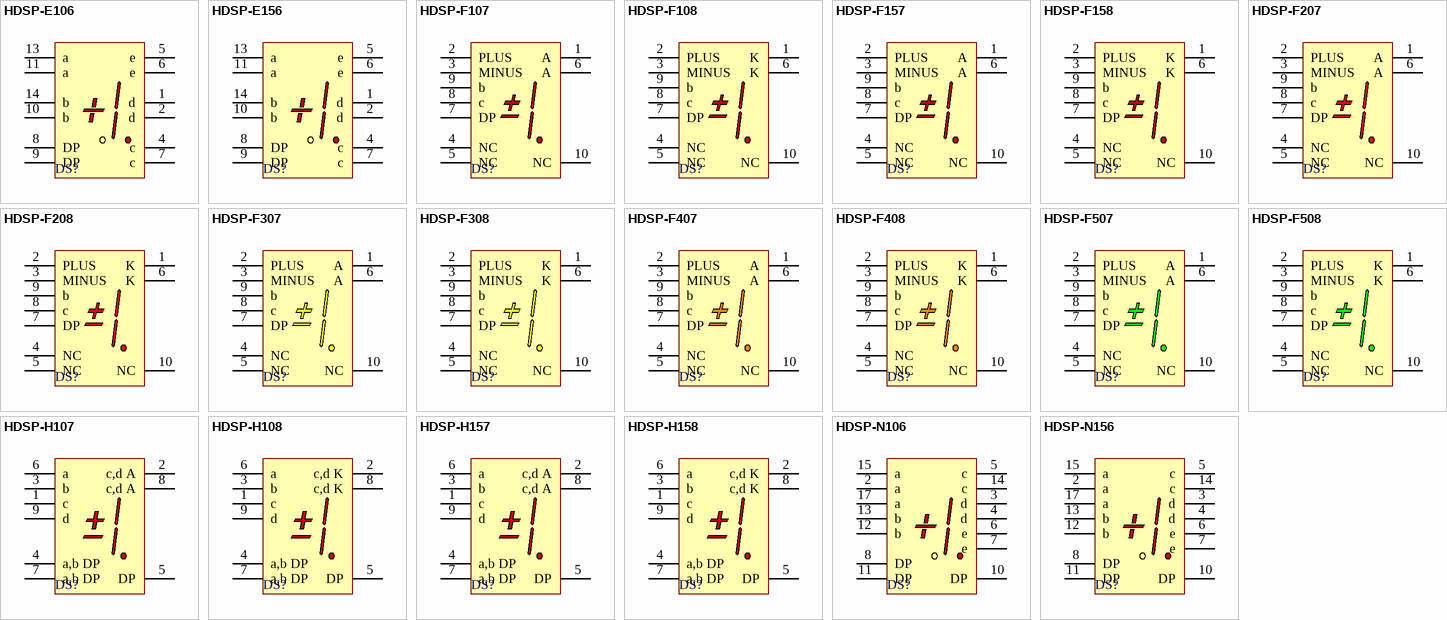
[diagram p1: symbols HDSP-E106 to HDSP-N156]

## HDSP-E106
designator DS?
10.92 mm Low Current AlGaAs 7-Segment Display: Universal ±1 Overflow; LuminousIntensity: 390 ucd (Minimum).; LED_Colour: AlGaAs Red; Note: No pins are present in positions 3 and 12.; Published: 26-May-2004; LatestRevisionDate: 11-Oct-2004; LatestRevisionNote: Display outline superimposed on PCB Footprint.; DatasheetDocument: 11-Mar-2003; PackageDocument: 11-Mar-2003; PackageReference: E-12; Publisher: Altium Limited; ComponentLink1Description: Manufacturer Link; ComponentLink1URL: http://www.agilent.com/; ComponentLink2Description: Datasheet; ComponentLink2URL: http://cp.literature.agilent.com/litweb/pdf/5989-2824EN.pdf
footprint E-12 (LED, Universal ±1 Overflow, 10.92 mm, RHD; 14 Leads (2 Absent); Row Space 7.62 mm; Pitch 2.54 mm)
simulation model HDSP_E106 (SUBCKT)
pins: 1 d "Cathode", 2 d "Anode", 4 c "Cathode", 5 e "Cathode", 6 e "Anode", 7 c "Anode", 8 DP "Anode", 9 DP "Cathode", 10 b "Cathode", 11 a "Cathode", 13 a "Anode", 14 b "Anode"

## HDSP-E156
designator DS?
10.92 mm AlGaAs 7-Segment Display: Universal ±1 Overflow, RH DP; LuminousIntensity: 8500 ucd (Minimum).; LED_Colour: AlGaAs Red; Note: No pins are present in positions 3 and 12.; Published: 26-May-2004; LatestRevisionDate: 11-Oct-2004; LatestRevisionNote: Display outline superimposed on PCB Footprint.; DatasheetDocument: 27-Aug-2001; PackageDocument: 11-Mar-2003; PackageReference: E-12; Publisher: Altium Limited; ComponentLink1Description: Manufacturer Link; ComponentLink1URL: http://www.agilent.com/; ComponentLink2Description: Datasheet; ComponentLink2URL: http://cp.literature.agilent.com/litweb/pdf/5988-3325EN.pdf
footprint E-12 (LED, Universal ±1 Overflow, 10.92 mm, RHD; 14 Leads (2 Absent); Row Space 7.62 mm; Pitch 2.54 mm)
simulation model HDSP_E156 (SUBCKT)
pins: 1 d "Cathode", 2 d "Anode", 4 c "Cathode", 5 e "Cathode", 6 e "Anode", 7 c "Anode", 8 DP "Anode", 9 DP "Cathode", 10 b "Cathode", 11 a "Cathode", 13 a "Anode", 14 b "Anode"

## HDSP-F107
designator DS?
10.16 mm Low Current AlGaAs 7-Segment Display: CA, ±1 Overflow; LuminousIntensity: 330 ucd (Minimum).; LED_Colour: AlGaAs Red; Note: Pins 1 and 6 are redundant Anodes.; Published: 26-May-2004; LatestRevisionDate: 11-Oct-2004; LatestRevisionNote: Display outline superimposed on PCB Footprint.; DatasheetDocument: 11-Mar-2003; PackageDocument: 17-Jan-2002; PackageReference: F-10.16(O); Publisher: Altium Limited; ComponentLink1Description: Manufacturer Link; ComponentLink1URL: http://www.agilent.com/; ComponentLink2Description: Datasheet; ComponentLink2URL: http://cp.literature.agilent.com/litweb/pdf/5989-2824EN.pdf
footprint F-10.16(O) (LED, Universal ±1 Overflow, 10.16 mm, RHD; 10 Leads; Row Space 7.62 mm; Pitch 2.54 mm)
simulation model HDSP_A107 (SUBCKT)
pins: 1 A "Anode", 2 PLUS "Cathode", 3 MINUS "Cathode", 4 NC "No Connect", 5 NC "No Connect", 6 A "Anode", 7 DP "Cathode", 8 c "Cathode", 9 b "Cathode", 10 NC "No Connect"

## HDSP-F108
designator DS?
10.16 mm Low Current AlGaAs 7-Segment Display: CC, ±1 Overflow; LuminousIntensity: 330 ucd (Minimum).; LED_Colour: AlGaAs Red; Note: Pins 1 and 6 are redundant Cathodes.; Published: 26-May-2004; LatestRevisionDate: 11-Oct-2004; LatestRevisionNote: Display outline superimposed on PCB Footprint.; DatasheetDocument: 11-Mar-2003; PackageDocument: 17-Jan-2002; PackageReference: F-10.16(O); Publisher: Altium Limited; ComponentLink1Description: Manufacturer Link; ComponentLink1URL: http://www.agilent.com/; ComponentLink2Description: Datasheet; ComponentLink2URL: http://cp.literature.agilent.com/litweb/pdf/5989-2824EN.pdf
footprint F-10.16(O) (LED, Universal ±1 Overflow, 10.16 mm, RHD; 10 Leads; Row Space 7.62 mm; Pitch 2.54 mm)
simulation model HDSP_A108 (SUBCKT)
pins: 1 K "Cathode", 2 PLUS "Anode", 3 MINUS "Anode", 4 NC "No Connect", 5 NC "No Connect", 6 K "Cathode", 7 DP "Anode", 8 c "Anode", 9 b "Anode", 10 NC "No Connect"

## HDSP-F157
designator DS?
10.16 mm Gray Package AlGaAs Red 7-Segment Display: CA, ±1 Overflow; LuminousIntensity: 7500 ucd (Minimum).; Published: 26-May-2004; LatestRevisionDate: 11-Oct-2004; LatestRevisionNote: Display outline superimposed on PCB Footprint.; DatasheetDocument: 26-Jul-2001; PackageDocument: 17-Jan-2002; PackageReference: F-10.16(O); Publisher: Altium Limited; LED_Colour: AlGaAs Red; ComponentLink1Description: Manufacturer Link; ComponentLink1URL: http://www.agilent.com/; ComponentLink2Description: Datasheet; ComponentLink2URL: http://cp.literature.agilent.com/litweb/pdf/5989-2346EN.pdf
footprint F-10.16(O) (LED, Universal ±1 Overflow, 10.16 mm, RHD; 10 Leads; Row Space 7.62 mm; Pitch 2.54 mm)
simulation model HDSP_F157 (SUBCKT)
pins: 1 A "Anode", 2 PLUS "Cathode", 3 MINUS "Cathode", 4 NC "No Connect", 5 NC "No Connect", 6 A "Anode", 7 DP "Cathode", 8 c "Cathode", 9 b "Cathode", 10 NC "No Connect"

## HDSP-F158
designator DS?
10.16 mm Gray Package AlGaAs Red 7-Segment Display: CC, ±1 Overflow; LuminousIntensity: 7500 ucd (Minimum).; Published: 26-May-2004; LatestRevisionDate: 11-Oct-2004; LatestRevisionNote: Display outline superimposed on PCB Footprint.; DatasheetDocument: 26-Jul-2001; PackageDocument: 17-Jan-2002; PackageReference: F-10.16(O); Publisher: Altium Limited; LED_Colour: AlGaAs Red; ComponentLink1Description: Manufacturer Link; ComponentLink1URL: http://www.agilent.com/; ComponentLink2Description: Datasheet; ComponentLink2URL: http://cp.literature.agilent.com/litweb/pdf/5989-2346EN.pdf
footprint F-10.16(O) (LED, Universal ±1 Overflow, 10.16 mm, RHD; 10 Leads; Row Space 7.62 mm; Pitch 2.54 mm)
simulation model HDSP_F158 (SUBCKT)
pins: 1 K "Cathode", 2 PLUS "Anode", 3 MINUS "Anode", 4 NC "No Connect", 5 NC "No Connect", 6 K "Cathode", 7 DP "Anode", 8 c "Anode", 9 b "Anode", 10 NC "No Connect"

## HDSP-F207
designator DS?
10.16 mm Gray Package HER 7-Segment Display: CA, ±1 Overflow; LuminousIntensity: 420 ucd (Minimum).; LED_Colour: High Efficiency Red (HER); Published: 26-May-2004; LatestRevisionDate: 11-Oct-2004; LatestRevisionNote: Display outline superimposed on PCB Footprint.; DatasheetDocument: 26-Jul-2001; PackageDocument: 17-Jan-2002; PackageReference: F-10.16(O); Publisher: Altium Limited; ComponentLink1Description: Manufacturer Link; ComponentLink1URL: http://www.agilent.com/; ComponentLink2Description: Datasheet; ComponentLink2URL: http://cp.literature.agilent.com/litweb/pdf/5989-2346EN.pdf
footprint F-10.16(O) (LED, Universal ±1 Overflow, 10.16 mm, RHD; 10 Leads; Row Space 7.62 mm; Pitch 2.54 mm)
simulation model HDSP_F207 (SUBCKT)
pins: 1 A "Anode", 2 PLUS "Cathode", 3 MINUS "Cathode", 4 NC "No Connect", 5 NC "No Connect", 6 A "Anode", 7 DP "Cathode", 8 c "Cathode", 9 b "Cathode", 10 NC "No Connect"

## HDSP-F208
designator DS?
10.16 mm Gray Package HER 7-Segment Display: CC, ±1 Overflow; LuminousIntensity: 420 ucd (Minimum).; LED_Colour: High Efficiency Red (HER); Published: 26-May-2004; LatestRevisionDate: 11-Oct-2004; LatestRevisionNote: Display outline superimposed on PCB Footprint.; DatasheetDocument: 26-Jul-2001; PackageDocument: 17-Jan-2002; PackageReference: F-10.16(O); Publisher: Altium Limited; ComponentLink1Description: Manufacturer Link; ComponentLink1URL: http://www.agilent.com/; ComponentLink2Description: Datasheet; ComponentLink2URL: http://cp.literature.agilent.com/litweb/pdf/5989-2346EN.pdf
footprint F-10.16(O) (LED, Universal ±1 Overflow, 10.16 mm, RHD; 10 Leads; Row Space 7.62 mm; Pitch 2.54 mm)
simulation model HDSP_F208 (SUBCKT)
pins: 1 K "Cathode", 2 PLUS "Anode", 3 MINUS "Anode", 4 NC "No Connect", 5 NC "No Connect", 6 K "Cathode", 7 DP "Anode", 8 c "Anode", 9 b "Anode", 10 NC "No Connect"

## HDSP-F307
designator DS?
10.16 mm Gray Package Yellow 7-Segment Display: CA, ±1 Overflow; LuminousIntensity: 290 ucd (Minimum).; Published: 26-May-2004; LatestRevisionDate: 11-Oct-2004; LatestRevisionNote: Display outline superimposed on PCB Footprint.; DatasheetDocument: 26-Jul-2001; PackageDocument: 17-Jan-2002; PackageReference: F-10.16(O); Publisher: Altium Limited; LED_Colour: Yellow; ComponentLink1Description: Manufacturer Link; ComponentLink1URL: http://www.agilent.com/; ComponentLink2Description: Datasheet; ComponentLink2URL: http://cp.literature.agilent.com/litweb/pdf/5989-2346EN.pdf
footprint F-10.16(O) (LED, Universal ±1 Overflow, 10.16 mm, RHD; 10 Leads; Row Space 7.62 mm; Pitch 2.54 mm)
simulation model HDSP_F307 (SUBCKT)
pins: 1 A "Anode", 2 PLUS "Cathode", 3 MINUS "Cathode", 4 NC "No Connect", 5 NC "No Connect", 6 A "Anode", 7 DP "Cathode", 8 c "Cathode", 9 b "Cathode", 10 NC "No Connect"

## HDSP-F308
designator DS?
10.16 mm Gray Package Yellow 7-Segment Display: CC, ±1 Overflow; LuminousIntensity: 290 ucd (Minimum).; Published: 26-May-2004; LatestRevisionDate: 11-Oct-2004; LatestRevisionNote: Display outline superimposed on PCB Footprint.; DatasheetDocument: 26-Jul-2001; PackageDocument: 17-Jan-2002; PackageReference: F-10.16(O); Publisher: Altium Limited; LED_Colour: Yellow; ComponentLink1Description: Manufacturer Link; ComponentLink1URL: http://www.agilent.com/; ComponentLink2Description: Datasheet; ComponentLink2URL: http://cp.literature.agilent.com/litweb/pdf/5989-2346EN.pdf
footprint F-10.16(O) (LED, Universal ±1 Overflow, 10.16 mm, RHD; 10 Leads; Row Space 7.62 mm; Pitch 2.54 mm)
simulation model HDSP_F308 (SUBCKT)
pins: 1 K "Cathode", 2 PLUS "Anode", 3 MINUS "Anode", 4 NC "No Connect", 5 NC "No Connect", 6 K "Cathode", 7 DP "Anode", 8 c "Anode", 9 b "Anode", 10 NC "No Connect"

## HDSP-F407
designator DS?
10.16 mm Gray Package Orange 7-Segment Display: CA, ±1 Overflow; LuminousIntensity: 420 ucd (Minimum).; Published: 26-May-2004; LatestRevisionDate: 11-Oct-2004; LatestRevisionNote: Display outline superimposed on PCB Footprint.; DatasheetDocument: 26-Jul-2001; PackageDocument: 17-Jan-2002; PackageReference: F-10.16(O); Publisher: Altium Limited; LED_Colour: Orange; ComponentLink1Description: Manufacturer Link; ComponentLink1URL: http://www.agilent.com/; ComponentLink2Description: Datasheet; ComponentLink2URL: http://cp.literature.agilent.com/litweb/pdf/5989-2346EN.pdf
footprint F-10.16(O) (LED, Universal ±1 Overflow, 10.16 mm, RHD; 10 Leads; Row Space 7.62 mm; Pitch 2.54 mm)
simulation model HDSP_F407 (SUBCKT)
pins: 1 A "Anode", 2 PLUS "Cathode", 3 MINUS "Cathode", 4 NC "No Connect", 5 NC "No Connect", 6 A "Anode", 7 DP "Cathode", 8 c "Cathode", 9 b "Cathode", 10 NC "No Connect"